# Altium footprint library MZ7XBFUN20171130.PcbLib: 50 footprints (part 3 of 4)
Each footprint in its own frame and in the unit in brackets; x right, y up, seen from the top. Pads: shape width x height; smd on the part's side, far side on the other; paste and mask are expansions set on the pad; w line width, h text height; cw(c..) or ccw(c..) is an arc to the next point about the centre after c.
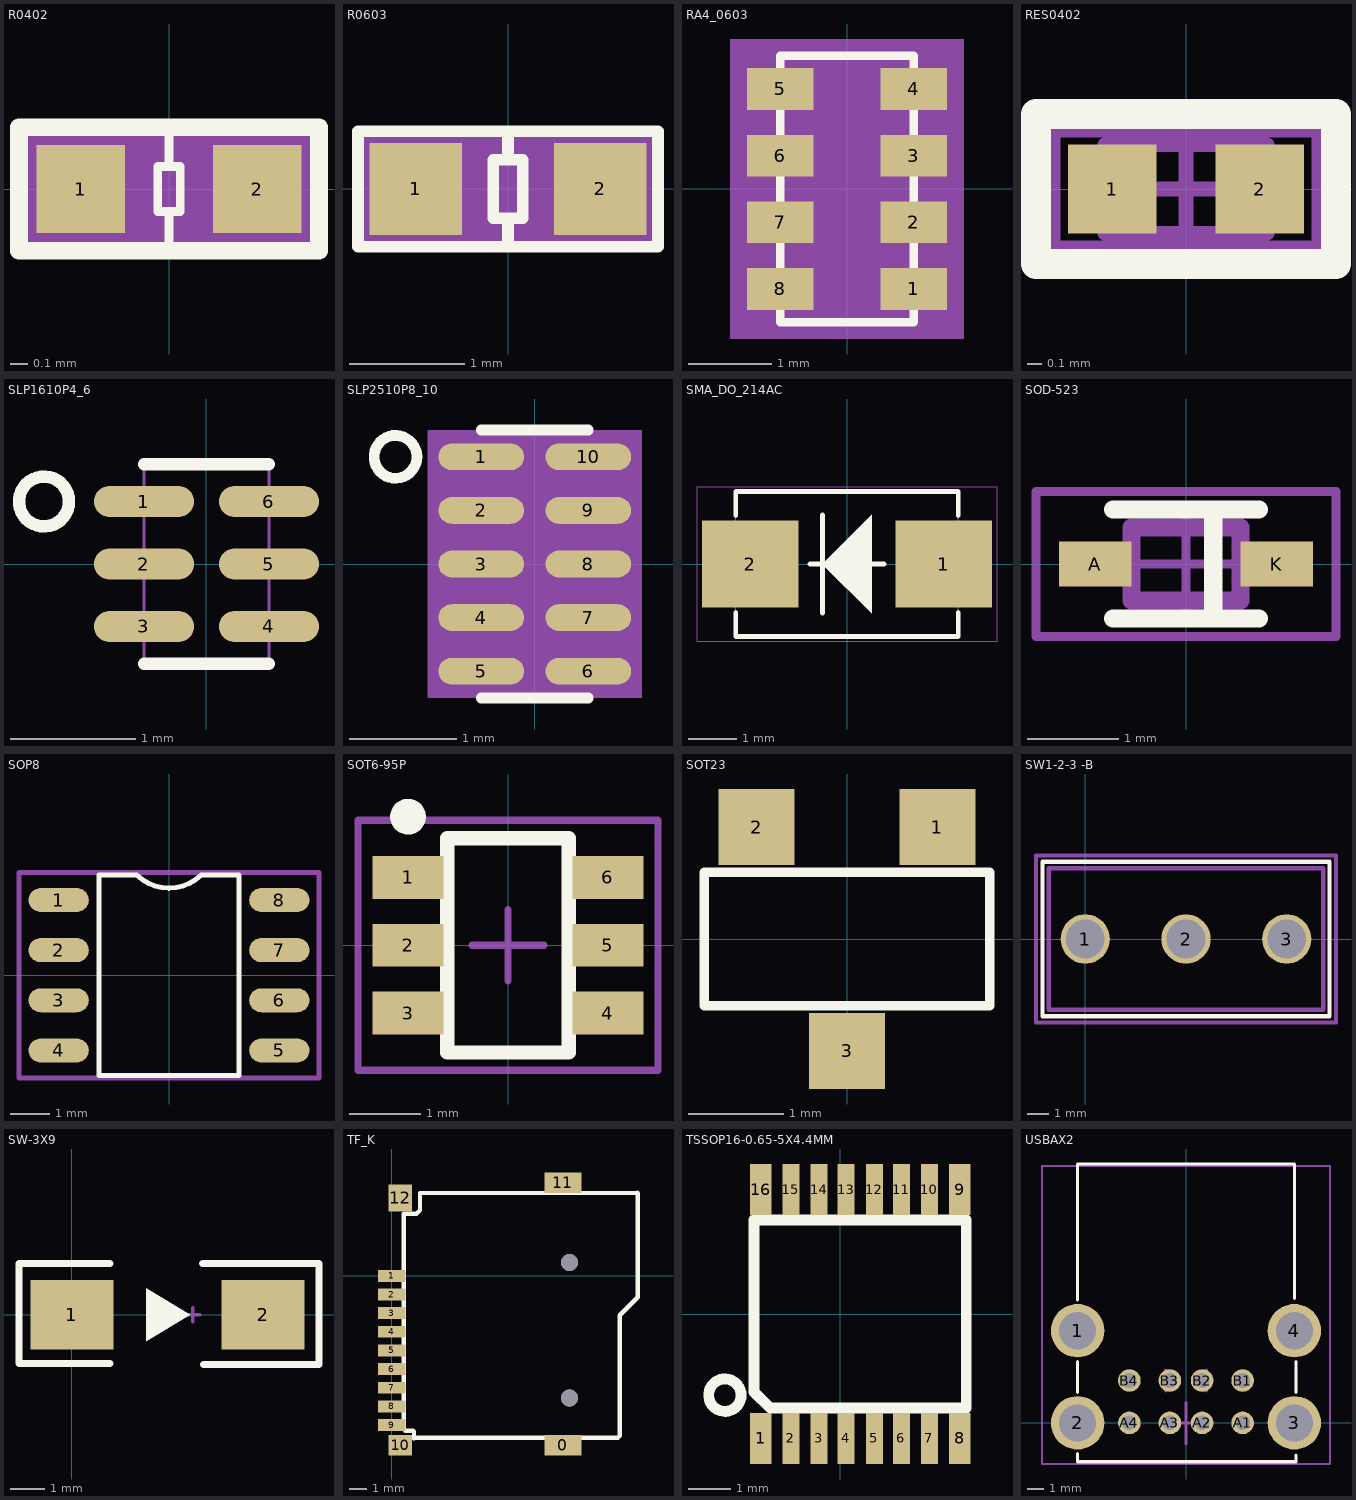
[diagram p2: the footprints below, top view; thin cyan lines are the x and y axes]

## R0402 [mm]
pads (2):
  rect 0.5x0.5 smd: 1(-0.5,0) 2(0.5,0)
Top Overlay:
  lines w0.05: 0,-0.318 0,-0.127 ; 0,0.127 0,0.318 ; -0.064,-0.127 -0.064,0.127 0.064,0.127 0.064,-0.127 -0.064,-0.127
  lines w0.1: -0.85,-0.35 -0.85,0.35 0.85,0.35 0.85,-0.35 -0.85,-0.35
Mechanical 7:
  lines w0.025: -0.5,-0.25 -0.5,0.25 0.5,0.25 0.5,-0.25 -0.5,-0.25
Mechanical 8:
  region: -0.85,-0.35 0.85,-0.35 0.85,0.35 -0.85,0.35
3D body: height 3.81, standoff 0, extent -0.85,-0.35 0.85,0.35

## R0603 [mm] "R0603"
pads (2):
  rect 0.8x0.8 smd: 1(-0.8,0) 2(0.8,0)
Top Overlay:
  lines w0.1: 0,-0.5 0,-0.254 ; 0,0.254 0,0.5 ; -1.3,-0.5 1.3,-0.5 1.3,0.5 -1.3,0.5 -1.3,-0.5 ; -0.127,-0.254 0.127,-0.254 0.127,0.254 -0.127,0.254 -0.127,-0.254
Mechanical 7:
  lines w0.025: -0.8,-0.4 0.8,-0.4 0.8,0.4 -0.8,0.4 -0.8,-0.4
Mechanical 8:
  region: -1.3,-0.5 1.3,-0.5 1.3,0.5 -1.3,0.5
3D body: height 3.81, standoff 0, extent -1.3,-0.5 1.3,0.5

## RA4_0603 [mm]
pads (8):
  rect 0.8x0.5 smd: 1(0.8,-1.2) 2(0.8,-0.4) 3(0.8,0.4) 4(0.8,1.2) 5(-0.8,1.2) 6(-0.8,0.4) 7(-0.8,-0.4) 8(-0.8,-1.2)
Top Overlay:
  lines w0.1: -0.8,-1.6 0.8,-1.6 0.8,1.6 -0.8,1.6 -0.8,-1.6
Mechanical 9:
  region: 1.4,1.8 1.4,-1.8 -1.4,-1.8 -1.4,1.8
Mechanical 10:
  pour cut-out: 1.4,-1.8 1.1,-1.8 1.4,-1.5
  lines w0.025: -0.8,-1.6 -0.8,1.6 0.8,1.6 0.8,-1.6 -0.8,-1.6
3D body: height 3.81, standoff 0, extent -1.4,-1.8 1.4,1.8

## RES0402 [mm]
pads (2):
  rect 0.6x0.6 smd: 1(-0.5,0) 2(0.5,0)
Top Overlay:
  lines w0.2: -1.016,-0.508 1.016,-0.508 1.016,0.508 -1.016,0.508 -1.016,-0.508
Mechanical 13:
  lines w0.1: -0.55,-0.3 -0.55,0.3 0.55,0.3 0.55,-0.3 -0.55,-0.3
Mechanical 15:
  lines w0.1: -0.3,0 0.3,0 ; 0,-0.3 0,0.3 ; -0.9,-0.4 0.9,-0.4 0.9,0.4 -0.9,0.4 -0.9,-0.4
3D body: height 0.6, standoff 0, extent -0.55,-0.3 0.55,0.3

## SLP1610P4_6 [mm]
pads (6):
  oval 0.8x0.25 smd: 1(-0.5,0.5) 2(-0.5,0) 3(-0.5,-0.5) 4(0.5,-0.5) 5(0.5,0) 6(0.5,0.5)
Top Overlay:
  circle w0.1: c-1.3,0.5 r0.2
  lines w0.1: -0.5,-0.8 0.5,-0.8 ; -0.5,0.8 0.5,0.8
Mechanical 6:
  text "1" at -0.5,-0.07 h0.76
Mechanical 7:
  lines w0.025: -0.5,-0.8 0.5,-0.8 0.5,0.8 -0.5,0.8 -0.5,-0.8
3D body: height 3.81, standoff 0, extent -1,-0.8 1,0.8

## SLP2510P8_10 [mm]
pads (10):
  oval 0.8x0.25 smd: 1(-0.5,1) 2(-0.5,0.5) 3(-0.5,0) 4(-0.5,-0.5) 5(-0.5,-1) 6(0.5,-1) 7(0.5,-0.5) 8(0.5,0) 9(0.5,0.5) 10(0.5,1)
Top Overlay:
  circle w0.1: c-1.3,1 r0.2
  lines w0.1: -0.5,-1.25 0.5,-1.25 ; -0.5,1.25 0.5,1.25
Mechanical 6:
  text "3" at -0.5,0.07 h0.76
  text "6" at 0.5,-0.93 h0.76
  text "5" at -0.5,-0.93 h0.76
  text "4" at -0.5,-0.43 h0.76
Mechanical 7:
  lines w0.025: -0.5,-1.25 0.5,-1.25 0.5,1.25 -0.5,1.25 -0.5,-1.25
Mechanical 8:
  region: -1,-1.25 1,-1.25 1,1.25 -1,1.25
3D body: height 3.81, standoff 0, extent -1,-1.25 1,1.25

## SMA_DO_214AC [mm]
pads (2):
  rect 2x1.8 smd: 1(2,0) 2(-2,0)
Top Overlay:
  pour cut-out: 0.508,-1.016 0.508,1.016 -0.508,0
  lines w0.1: -2.3,-1 -2.3,-1.5 2.3,-1.5 2.3,-1 ; -2.3,1 -2.3,1.5 2.3,1.5 2.3,1 ; -0.762,0 0.762,0 ; -0.508,-1.016 -0.508,1.016
Mechanical 6:
  text "2" at -2,0.45 h0.76
  text "1" at 2,0.45 h0.76
Mechanical 9:
  lines w0.025: -3.1,-1.6 3.1,-1.6 3.1,1.6 -3.1,1.6 -3.1,-1.6
Mechanical 10:
  lines w0.025: -2.3,-1.5 2.3,-1.5 2.3,1.5 -2.3,1.5 -2.3,-1.5

## SOD-523 [mm]
pads (2):
  rect 0.8x0.5 smd: A(-1,0) K(1,0)
Top Overlay:
  lines w0.2: -0.8,-0.6 0.8,-0.6 ; -0.8,0.6 0.8,0.6 ; 0.3,-0.6 0.3,0.6
Mechanical 13:
  lines w0.2: -0.6,-0.4 0.6,-0.4 0.6,0.4 -0.6,0.4 -0.6,-0.4
Mechanical 15:
  lines w0.1: -0.5,0 0.5,0 ; 0,-0.6 0,0.6 ; -1.651,-0.8 1.651,-0.8 1.651,0.8 -1.651,0.8 -1.651,-0.8
3D body: height 2, standoff 0, extent -0.6,-0.4 0.6,0.4

## SOP8 [mil]
pads (8):
  oval 60x24 smd: 1(-110,75) 2(-110,25) 3(-110,-25) 4(-110,-75) 5(110,-75) 6(110,-25) 7(110,25) 8(110,75)
Top Overlay:
  lines w5: -70,-100 70,-100 70,100 32,100 cw(c0,132) -32,100 -70,100 -70,-100
Mechanical 15:
  lines w5: -149.61,-102.36 149.61,-102.36 149.61,102.36 -149.61,102.36 -149.61,-102.36

## SOT6-95P [mm]
pads (6):
  rect 1x0.6 smd: 1(-1.4,0.95) 2(-1.4,0) 3(-1.4,-0.95) 4(1.4,-0.95) 5(1.4,0) 6(1.4,0.95)
Top Overlay:
  circle w0.25: c-1.4,1.8 r0.125
  lines w0.2: -0.85,-1.5 0.85,-1.5 0.85,1.5 -0.85,1.5 -0.85,-1.5
Mechanical 13:
  lines w0.1: -0.85,-1.5 -0.85,1.5 0.85,1.5 0.85,-1.5 -0.85,-1.5
Mechanical 15:
  lines w0.1: -0.5,0 0.5,0 ; 0,-0.5 0,0.5 ; -2.1,-1.75 -2.1,1.75 2.1,1.75 2.1,-1.75 -2.1,-1.75
3D body: height 1.3, standoff 0.05, extent -0.85,-1.5 0.85,1.5

## SOT23 [mm]
pads (3):
  rect 0.8x0.8 smd: 1(0.95,1.175) 2(-0.95,1.175) 3(0,-1.175)
Top Overlay:
  lines w0.1: -1.5,-0.7 1.5,-0.7 1.5,0.7 -1.5,0.7 -1.5,-0.7
Mechanical 10:
  lines w0.025: -1.5,-0.7 -1.5,0.7 1.5,0.7 1.5,-0.7 -1.5,-0.7
3D body: height 3.81, standoff 0, extent -1.7,-1.775 1.7,1.775

## SW1-2-3 -B [mm]
pads (3):
  round 2.3 hole 1.8: 1(0,0) 2(4.7,0) 3(9.4,0)
Top Overlay:
  lines w0.203: -2,-3.6 11.4,-3.6 11.4,3.6 -2,3.6 -2,-3.6
Mechanical 13:
  lines w0.203: -1.7,-3.3 11.1,-3.3 11.1,3.3 -1.7,3.3 -1.7,-3.3
Mechanical 15:
  lines w0.203: 3.7,0 5.7,0 ; 4.7,-1 4.7,0.9 ; -2.3,-3.9 11.7,-3.9 11.7,3.9 -2.3,3.9 -2.3,-3.9
3D body: height 11, standoff 0, extent -1.7,-3.3 11.1,3.3

## SW-3X9 [mm]
pads (2):
  rect 2.4x2 smd: 1(0,0) 2(5.5,0)
Top Overlay:
  region: 3.404,0 2.134,0.762 2.134,-0.762
  lines w0.2: 1.1,-1.397 -1.524,-1.397 -1.524,1.473 1.1,1.473 ; 3.759,1.473 7.112,1.473 ; 3.785,-1.422 7.112,-1.422 ; 7.112,-1.397 7.112,1.422
Mechanical 1:
  lines w0.1: 3.275,0 3.675,0 ; 3.475,-0.2 3.475,0.2
3D body: height 1.78, standoff 0, extent 1.524,-0.559 3.988,0.533
3D body: height 1.02, standoff 0, extent -1.422,-1.295 6.934,1.346

## TF_K [mm]
pads (13):
  rect 2.2x1.2 smd: 0(10.1,-10) 11(10.1,5.5)
  rect 1.6x0.7 smd: 1(0,0) 2(0,-1.1) 3(0,-2.2) 4(0,-3.3) 5(0,-4.4) 6(0,-5.5) 7(0,-6.6) 8(0,-7.7) 9(0,-8.8)
  rect 1.4x1.2 smd: 10(0.5,-10)
  rect 1.4x1.6 smd: 12(0.5,4.6)
via 10.5,0.8 diameter 1 hole 1
via 10.5,-7.2 diameter 1 hole 1
Top Layer:
  lines w0.254: 1.312,-9.594 1.362,-9.543
Top Overlay:
  lines w0.254: 1.312,-9.594 1.312,-9.187 1.261,-9.136 0.804,-9.136 0.702,-9.035 0.702,3.665 1.464,3.665 1.667,3.868 1.667,4.884 14.5,4.9 ; 1.362,-9.543 13.351,-9.543 13.453,-9.441 13.453,-2.329 14.52,-1.262 14.52,4.88

## TSSOP16-0.65-5X4.4MM [mil]
pads (16):
  rect 19.7x47.2 smd: 1(-73.5,-115) 8(110.5,-115) 9(110.5,115) 16(-73.5,115)
  rect 15.7x47.2 smd: 2(-45.5,-115) 3(-19.5,-115) 4(5.5,-115) 5(31.5,-115) 6(56.5,-115) 7(82.5,-115) 10(82.5,115) 11(56.5,115) 12(31.5,115) 13(5.5,115) 14(-19.5,115) 15(-45.5,115)
Top Overlay:
  circle w10: c-106.5,-75 r15
  lines w10: -79.5,-72 -64.5,-87 116.5,-87 116.5,87 -79.5,87 -79.5,-72

## USBAX2 [mm]
pads (12):
  round 3.3 hole 2.3: 1(-6.7,5.7) 2(-6.7,0) 3(6.7,0) 4(6.7,5.7)
  round 1.4 hole 0.9: A1(3.5,0) A2(1,0) A3(-1,0) A4(-3.5,0) B1(3.5,2.62) B2(1,2.62) B3(-1,2.62) B4(-3.5,2.62)
Top Overlay:
  lines w0.203: -6.7,-1.9 -6.7,-2.4 6.8,-2.4 6.8,-2 ; -6.7,1.9 -6.7,3.8 ; -6.7,7.6 -6.7,16 6.7,16 6.7,7.7 ; 6.8,1.9 6.8,3.8
Mechanical 13:
  lines w0.203: -1.27,1.985 -1.27,3.255 ; 1.27,1.985 1.27,3.255
Mechanical 15:
  lines w0.127: -8.89,-2.54 -8.89,15.875 8.89,15.875 8.89,-2.54 -8.89,-2.54
  lines w0.203: -1.4,0 1.14,0 ; -1.27,1.985 -1.27,3.255 ; 0,-1.3 0,1.24 ; 1.27,1.985 1.27,3.255